# Altium schematic symbol library swatpcblib.SchLib: 133 symbols
Pins are listed as number, name and electrical type; pins without a type are passive.

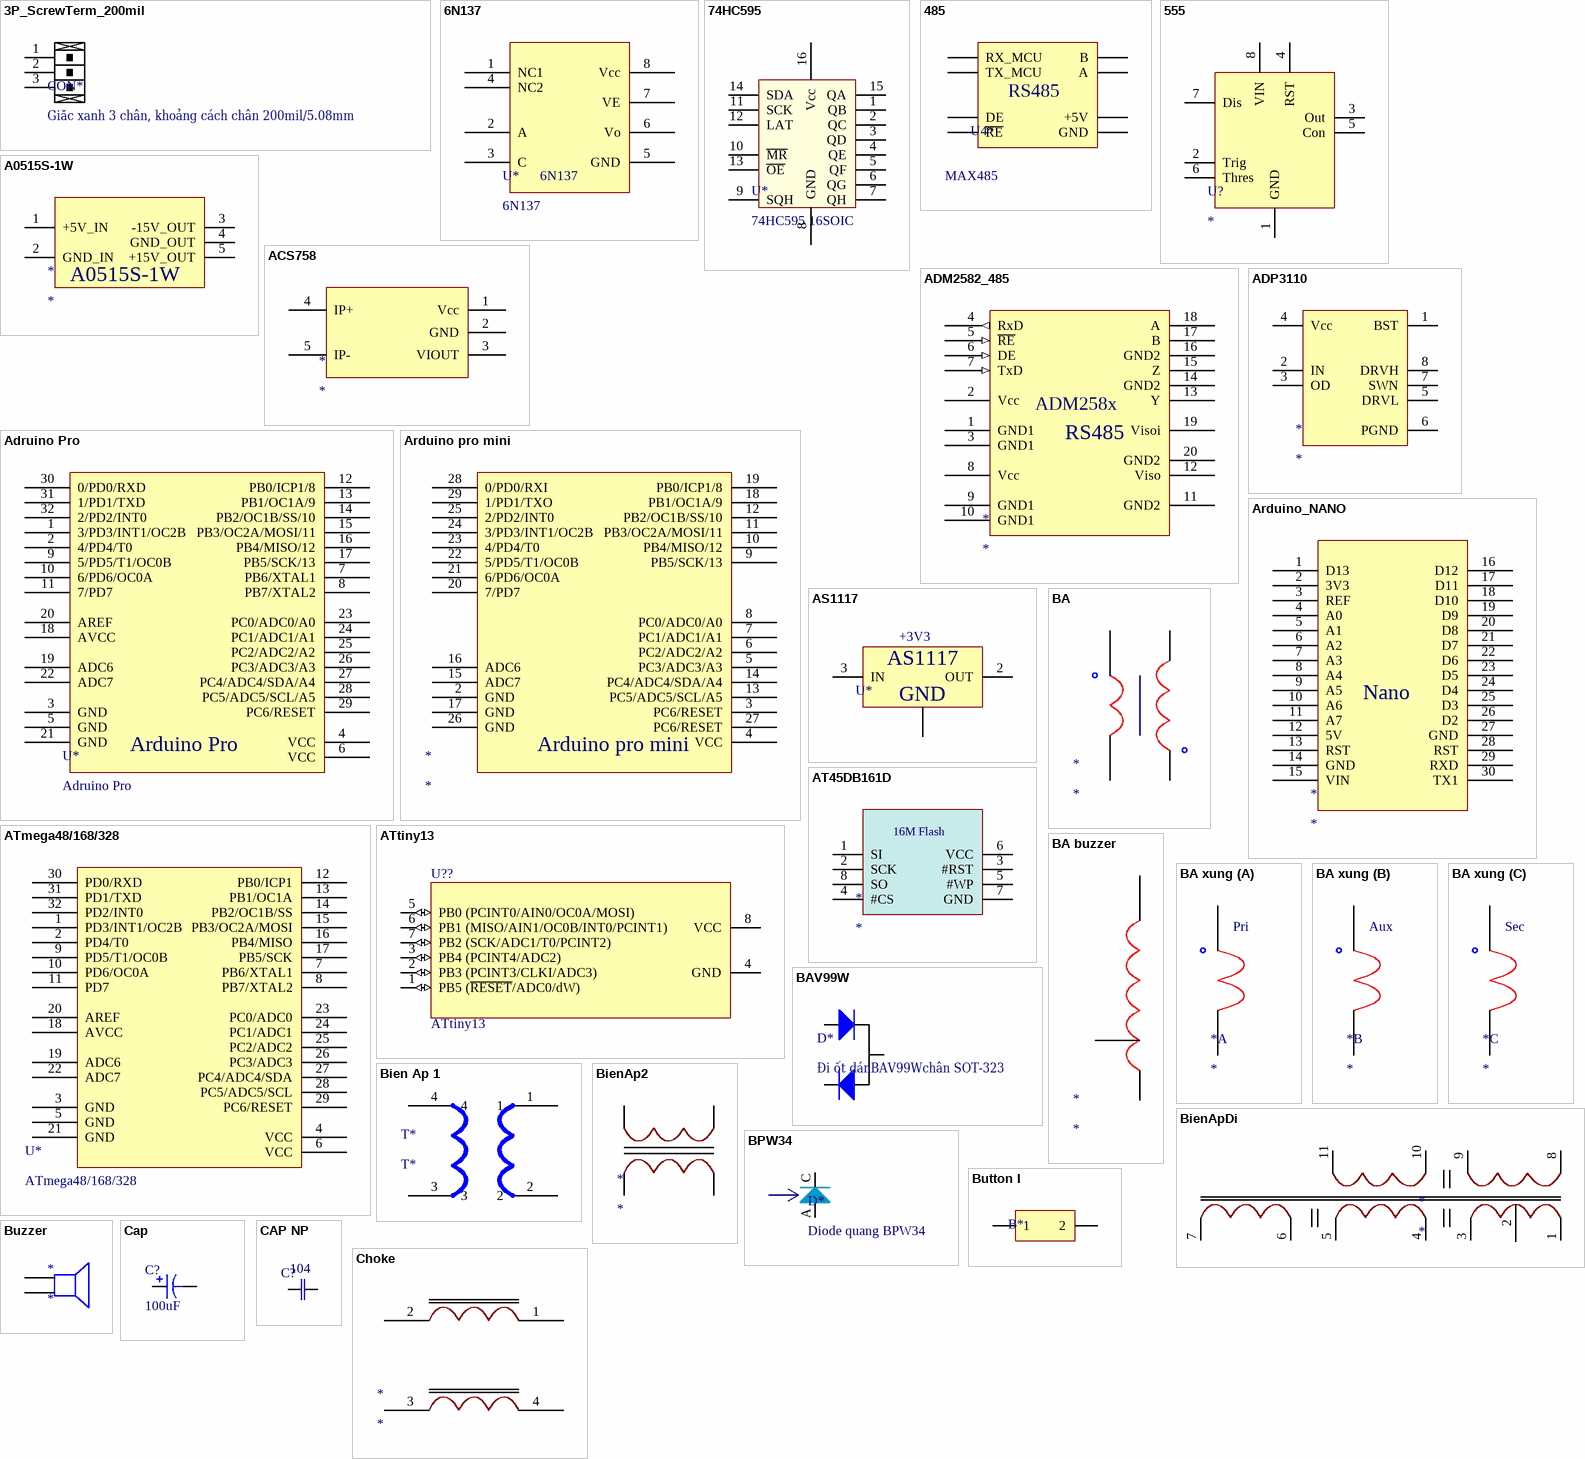
[diagram p0: symbols 3P_ScrewTerm_200mil to Choke]

## 3P_ScrewTerm_200mil
designator CON*, comment Giăc xanh 3 chân, khoảng cách chân 200mil/5.08mm
Terminal Block THT 3-Position header 5.08mm/200mil pitch; vl: Giăc xanh 3 chân, khoảng cách chân 200mil/5.08mm
footprint 3P_ScrewTerm_200mil
pins: 1, 2, 3

## 6N137
designator U*
Logic Output Optoisolator 15MBd Open Collector 5000Vrms 1 Channel 10kV/µs CMTI 8-DIP
footprint SMD-8 (6N137)
pins: 1 NC1, 2 A, 3 C, 4 NC2, 5 GND, 6 Vo, 7 VE, 8 Vcc

## 74HC595
designator U*, comment 74HC595 16SOIC
IC SHIFT REGISTER 8BIT 16SOIC
footprint SOIC16
pins: 1 QB, 2 QC, 3 QD, 4 QE, 5 QF, 6 QG, 7 QH, 8 GND (power), 9 SQH "OUTPUT", 10 ~{MR} "OUTPUT", 11 SCK "OUTPUT", 12 LAT "OUTPUT", 13 ~{OE} "OUTPUT", 14 SDA "OUTPUT", 15 QA, 16 Vcc (power)

## 485
designator U4*, comment vl2: MAX485  (hidden comment: MAX4858 chân cắm)
RS485; vl1: SN75176; cm2: 8 chân dán; cm1: 8 chân cắm
footprint SOIC 8
pins: 1 RX_MCU, 2 ~{RE}, 3 DE, 4 TX_MCU, 5 GND, 6 A, 7 B, 8 +5V

## 555
designator U?
footprint SO 8
pins: 1 GND (power), 2 Trig (power), 3 Out (power), 4 RST (power), 5 Con (power), 6 Thres (power), 7 Dis (power), 8 VIN (power)

## A0515S-1W
designator *
footprint MORNSUN A0515S
pins: 1 +5V_IN, 2 GND_IN, 3 -15V_OUT, 4 GND_OUT, 5 +15V_OUT

## ACS758
designator *
Current Sensor 200A 1 Channel Hall Effect, Open Loop Bidirectional 5-CB Formed Leads, PFF
footprint ACS758
pins: 1 Vcc (power), 2 GND (power), 3 VIOUT (power), 4 IP+ (power), 5 IP- (power)

## ADM2582_485
designator *
footprint SO-20B (SOIC, 20-Leads, Body 12.8x7.5mm, Pitch 1.27mm, IPC Medium Density)
pins: 1 GND1 (power), 2 Vcc (power), 3 GND1 (power), 4 RxD (out), 5 ~{RE} (in), 6 DE (in), 7 TxD (in), 8 Vcc (power), 9 GND1 (power), 10 GND1 (power), 11 GND2 (power), 12 Viso (power), 13 Y, 14 GND2 (power), 15 Z, 16 GND2 (power), 17 B, 18 A, 19 Visoi (power), 20 GND2 (power)
text: ADM258x; RS485

## ADP3110
designator *
footprint SO 8
pins: 1 BST (power), 2 IN (power), 3 OD (power), 4 Vcc (power), 5 DRVL (power), 6 PGND (power), 7 SWN (power), 8 DRVH (power)

## Adruino Pro
designator U*
footprint TQFP32 (32-TQFP (7x7))
pins: 1 3/PD3/INT1/OC2B, 2 4/PD4/T0, 3 GND (power), 4 VCC, 5 GND (power), 6 VCC, 7 PB6/XTAL1, 8 PB7/XTAL2, 9 5/PD5/T1/OC0B, 10 6/PD6/OC0A, 11 7/PD7, 12 PB0/ICP1/8, 13 PB1/OC1A/9, 14 PB2/OC1B/SS/10, 15 PB3/OC2A/MOSI/11, 16 PB4/MISO/12, 17 PB5/SCK/13, 18 AVCC, 19 ADC6, 20 AREF, 21 GND (power), 22 ADC7, 23 PC0/ADC0/A0, 24 PC1/ADC1/A1, 25 PC2/ADC2/A2, 26 PC3/ADC3/A3, 27 PC4/ADC4/SDA/A4, 28 PC5/ADC5/SCL/A5, 29 PC6/RESET, 30 0/PD0/RXD, 31 1/PD1/TXD, 32 2/PD2/INT0
text: Arduino Pro

## Arduino pro mini
designator *
The simple arduino pro mini
footprint Ard pro mini
pins: 2 GND (power), 3 PC6/RESET, 4 VCC, 5 PC3/ADC3/A3, 6 PC2/ADC2/A2, 7 PC1/ADC1/A1, 8 PC0/ADC0/A0, 9 PB5/SCK/13, 10 PB4/MISO/12, 11 PB3/OC2A/MOSI/11, 12 PB2/OC1B/SS/10, 13 PC5/ADC5/SCL/A5, 14 PC4/ADC4/SDA/A4, 15 ADC7, 16 ADC6, 17 GND (power), 18 PB1/OC1A/9, 19 PB0/ICP1/8, 20 7/PD7, 21 6/PD6/OC0A, 22 5/PD5/T1/OC0B, 23 4/PD4/T0, 24 3/PD3/INT1/OC2B, 25 2/PD2/INT0, 26 GND (power), 27 PC6/RESET, 28 0/PD0/RXI, 29 1/PD1/TXO

## Arduino_NANO
designator *
footprint Mo_NANO
pins: 1 D13 (power), 2 3V3 (power), 3 REF (power), 4 A0 (power), 5 A1 (power), 6 A2 (power), 7 A3 (power), 8 A4 (power), 9 A5 (power), 10 A6 (power), 11 A7 (power), 12 5V (power), 13 RST (power), 14 GND (power), 15 VIN (power), 16 D12 (power), 17 D11 (power), 18 D10 (power), 19 D9 (power), 20 D8 (power), 21 D7 (power), 22 D6 (power), 23 D5 (power), 24 D4 (power), 25 D3 (power), 26 D2 (power), 27 GND (power), 28 RST (power), 29 RXD (power), 30 TX1 (power)
text: Nano

## AS1117
designator U*, comment vl: +3V3  (hidden comment: IC nguồn AS1117 dán+3V3)
cm: IC nguồn AS1117 dán
footprint SOT223-4N
pins: 1 GND (power), 2 OUT (power), 3 IN (power), 4

## AT45DB161D
designator *
footprint 8s2
pins: 1 SI (power), 2 SCK (power), 3 #RST (power), 4 #CS (power), 5 #WP (power), 6 VCC (power), 7 GND (power), 8 SO (power)
text: 16M Flash

## ATmega48/168/328
designator U*
AVR AVR® ATmega Microcontroller IC 8-Bit 20MHz 8KB (4K x 16) FLASH 32-TQFP (7x7)
footprint TQFP32 (32-TQFP (7x7))
pins: 1 PD3/INT1/OC2B, 2 PD4/T0, 3 GND (power), 4 VCC, 5 GND (power), 6 VCC, 7 PB6/XTAL1, 8 PB7/XTAL2, 9 PD5/T1/OC0B, 10 PD6/OC0A, 11 PD7, 12 PB0/ICP1, 13 PB1/OC1A, 14 PB2/OC1B/SS, 15 PB3/OC2A/MOSI, 16 PB4/MISO, 17 PB5/SCK, 18 AVCC, 19 ADC6, 20 AREF, 21 GND (power), 22 ADC7, 23 PC0/ADC0, 24 PC1/ADC1, 25 PC2/ADC2, 26 PC3/ADC3, 27 PC4/ADC4/SDA, 28 PC5/ADC5/SCL, 29 PC6/RESET, 30 PD0/RXD, 31 PD1/TXD, 32 PD2/INT0

## ATtiny13
designator U??
8-Bit AVR Microcontroller with 1K Byte of Flash Memory; Published: 17-Sep-2003; LatestRevisionDate: 13-Apr-2006; LatestRevisionNote: IPC-7351 Footprint Added.; DatasheetVersion: 1187E-AVR-06/02; PackageVersion: revB, May-2002; PackageReference: 8S2; Publisher: Altium Limited; PackageDescription: 8-Pin Small Outline Package 1.27 mm Pitch; ComponentLink1Description: Manufacturer Link; ComponentLink1URL: http://www.atmel.com; ComponentLink2Description: Datasheet; ComponentLink2URL: http://www.atmel.com/dyn/resources/prod_documents/doc1187.pdf
footprint 8S2_N (SOP, 8-Leads, Body 5.3x5.3mm, Pitch 1.27mm, IPC Medium Density)
footprint 8S2_L (SOP, 8-Leads, Body 5.3x5.3mm, Pitch 1.27mm, IPC High Density)
footprint 8S2_M (SOP, 8-Leads, Body 5.3x5.3mm, Pitch 1.27mm, IPC Low Density)
3D model 8S2 (8-Pin Small Outline Package 1.27 mm Pitch)
footprint SOIC 8
pins: 1 PB5 (~{RESET}/ADC0/dW) (io), 2 PB3 (PCINT3/CLKI/ADC3) (io), 3 PB4 (PCINT4/ADC2) (io), 4 GND (power), 5 PB0 (PCINT0/AIN0/OC0A/MOSI) (io), 6 PB1 (MISO/AIN1/OC0B/INT0/PCINT1) (io), 7 PB2 (SCK/ADC1/T0/PCINT2) (io), 8 VCC (power)

## BA
designator *
footprint ba11 (Footprint not found)
pins: 1 (power), 2 (power), 3 (power), 4 (power)

## BA buzzer
designator *
footprint Buzzer Transformer
pins: 1 (power), 2 (power), 3 (power)

## BA xung
designator *
footprint DT002EE2506V (Chikara); pin to pad 3>4 4>5 5>7 6>9
part A pins: 1 (power), 2 (power)
part B pins: 3 (power), 4 (power)
part C pins: 5 (power), 6 (power)
part A text: Pri
part B text: Aux
part C text: Sec

## BAV99W
designator D*, comment Đi ốt dánBAV99Wchân SOT-323
Diode Array 1 Pair Series Connection Standard 70V 215mA (DC) Surface Mount SC-70, SOT-323; vl1: BAV99W; vl2: BAV70; Des: Diode Array 1 Pair Series Connection Standard 70V 215mA (DC) Surface Mount SC-70, SOT-323; cm1: Đi ốt dán; cm2: chân SOT-323
footprint SOT323 (SOT323 (SC70))
pins: 1 A, 2 K, 3 AK

## Bien Ap 1
designator T*, comment T*
footprint Bien Ap 1
pins: 1, 2, 3, 4

## BienAp2
designator *
pins: 1, 2, 3, 4

## BienApDi
designator *
pins: 1, 2, 3, 4, 5, 6, 7, 8, 9, 10, 11

## BPW34
designator D*, comment Diode quang BPW34
BPW34 is a PIN photodiode with high speed and high radiant sensitivity in miniature, flat, top view, clear plastic package. It is sensitive to visible and near infrared radiation.; value: Diode quang BPW34; des: BPW34 is a PIN photodiode with high speed and high radiant sensitivity in miniature, flat, top view, clear plastic package. It is sensitive to visible and near infrared radiation.
footprint BPW34
pins: A, C

## Button I
designator B*, comment Button  (value not drawn)
footprint SW 12x12x4 (Nut bam 12x12x4mm)
footprint SW (6.25x6.25mm)
pins: 1 (power), 2 (power)

## Buzzer
designator *
footprint BUZZ
footprint Buzzerv2
pins: 1, 2

## Cap
designator C?  value 100uF  (hidden comment: *)
footprint CAP 3.8mm (16V 470uF)
footprint SMD CAP 6032
footprint SMD 6728
pins: 1, 2

## CAP NP
designator C?, comment value 104  (hidden comment: Tụ điện dán 0603104)
Capacitor non polarized; cm2: Tụ điện dán 0805; cm3: Tụ điện dán 1206; cm1: Tụ điện dán 0603
footprint CAP 0805
footprint CAPC1608N_F (Chip Capacitor, Body 1.6x0.8mm, 0603, IPC Medium Density, for Flex circuits)
footprint CAPC2012N_F (Chip Capacitor, Body 2.0x1.2mm, 0805, IPC Medium Density, for Flex circuits)
footprint CAPC3216N (Chip Capacitor, Body 3.2x1.6mm, 1206, IPC Medium Density)
pins: 1, 2

## Choke
designator *
footprint Choke
pins: 1, 2, 3, 4

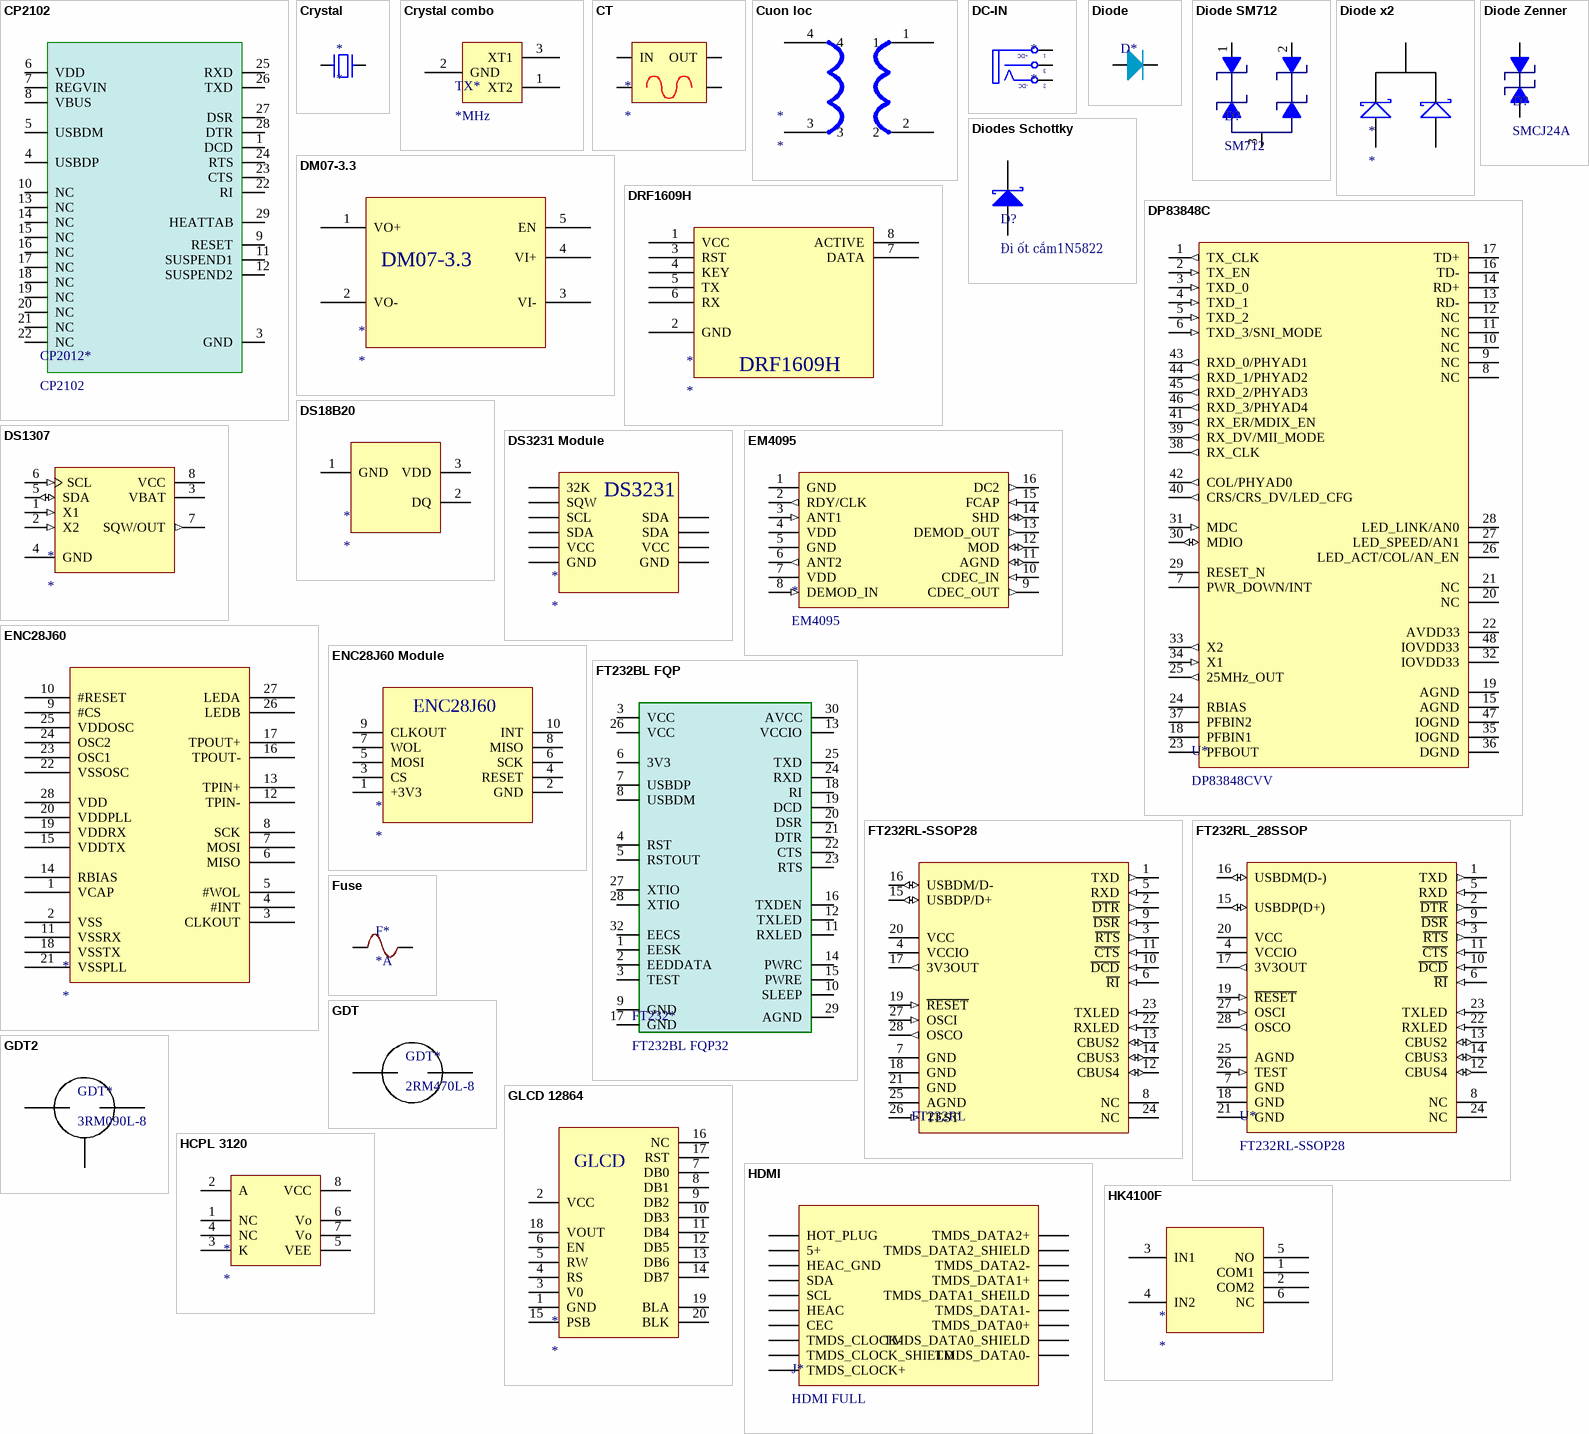
[diagram p1: symbols CP2102 to HK4100F]

## CP2102
designator CP2012*
footprint QFN28
pins: 1 DCD (power), 3 GND (power), 4 USBDP (power), 5 USBDM (power), 6 VDD (power), 7 REGVIN (power), 8 VBUS (power), 9 RESET (power), 10 NC (power), 11 SUSPEND1 (power), 12 SUSPEND2 (power), 13 NC (power), 14 NC (power), 15 NC (power), 16 NC (power), 17 NC (power), 18 NC (power), 19 NC (power), 20 NC (power), 21 NC (power), 22 RI (power), 22 NC (power), 23 CTS (power), 24 RTS (power), 25 RXD (power), 26 TXD (power), 27 DSR (power), 28 DTR (power), 29 HEATTAB (power)

## Crystal
designator *
footprint XT2
footprint XT2N
footprint XTmini
footprint XTminiv2
pins: 1, 2

## Crystal combo
designator TX*, comment *MHz
footprint Crystal combo
pins: 1 XT2 (power), 2 GND (power), 3 XT1 (power)

## CT
designator *
pins: 1 CT, 2 CT, 3 OUT, 4 IN

## Cuon loc
designator *
footprint Cuon loc
pins: 1, 2, 3, 4

## DC-IN
designator *
footprint DC-IN-5mm
pins: 1 T "Tip", 2 TN "Tip Normal (Break Contact)", 3 S (power) "Sleeve (Ground)"
text: +DC; -DC

## Diode
designator D*
cm1: Đi ốt cắm; cm2: Đi ốt dán; vl2: FR307; vl3: TVS 1.5KE300A 19A 300V; vl4: HER508 5A 1000V
footprint DO-35 (1N4148); pin to pad A>2 K>1
footprint DO-41-2
footprint DO-41 (1N4007)
footprint DO-201 (1N5822, FR307)
footprint DO-41-2
pins: A, K

## Diode SM712
designator D?, comment SM712
The SM712 transient voltage suppressor (TVS) diode  is designed for asymmetrical (12V to -7V) protection  in multi-point data transmission standard RS-485  applications.
footprint SOT23 TOP; pin to pad 2>3 3>2
pins: 1 IO1, 2 IO2, 3 GND

## Diode x2
designator *
footprint TO-220
pins: 1 A1, 2 A2, 3 K

## Diode Zenner
designator D?, comment SMCJ24A
ESD Suppressors / TVS Diodes 24volts 1.5kW 5% Uni-Dir. AEC-Q101
footprint DO-214AB (JEDEC DO214 variation AB. SMC); pin to pad 1>K 2>A
pins: 1, 2

## Diodes Schottky
designator D?, comment Đi ốt cắm1N5822
Schottky Diodes Through Hole 3 A 40 V Schottky Diodes, DO-201AD, SB340 ,MBR340; cm2: Đi ốt dán; Value: 1N5822; cm1: Đi ốt cắm
footprint DO-201 (Diode THT DO-201)
footprint DO 214AB (SS54 SS34)
pins: A, K

## DM07-3.3
designator *
footprint DM07-3.3V
pins: 1 VO+ (power), 2 VO- (power), 3 VI- (power), 4 VI+ (power), 5 EN (power)

## DP83848C
designator U*, comment DP83848CVV
pins: 1 TX_CLK (out), 2 TX_EN (in), 3 TXD_0 (in), 4 TXD_1 (in), 5 TXD_2 (in), 6 TXD_3/SNI_MODE (in), 7 PWR_DOWN/INT, 8 NC, 9 NC, 10 NC, 11 NC, 12 NC, 13 RD-, 14 RD+, 15 AGND, 16 TD-, 17 TD+, 18 PFBIN1, 19 AGND, 20 NC, 21 NC, 22 AVDD33, 23 PFBOUT, 24 RBIAS, 25 25MHz_OUT (out), 26 LED_ACT/COL/AN_EN, 27 LED_SPEED/AN1, 28 LED_LINK/AN0, 29 RESET_N, 30 MDIO (io), 31 MDC (in), 32 IOVDD33, 33 X2 (out), 34 X1 (in), 35 IOGND, 36 DGND, 37 PFBIN2, 38 RX_CLK (out), 39 RX_DV/MII_MODE (out), 40 CRS/CRS_DV/LED_CFG (out), 41 RX_ER/MDIX_EN (out), 42 COL/PHYAD0 (out), 43 RXD_0/PHYAD1 (out), 44 RXD_1/PHYAD2 (out), 45 RXD_2/PHYAD3 (out), 46 RXD_3/PHYAD4 (out), 47 IOGND, 48 IOVDD33

## DRF1609H
designator *
footprint DRF1609H-DIP
pins: 1 VCC (power), 2 GND (power), 3 RST (power), 4 KEY (power), 5 TX (power), 6 RX (power), 7 DATA (power), 8 ACTIVE (power)

## DS18B20
designator *
footprint QTO-92 (TO-92)
pins: 1 GND, 2 DQ, 3 VDD

## DS1307
designator *
pins: 1 X1 (in), 2 X2 (in), 3 VBAT (power), 4 GND (power), 5 SDA (io), 6 SCL (in), 7 SQW/OUT (out), 8 VCC (power)

## DS3231 Module
designator *
footprint DS3231 Module
pins: 1 32K, 2 SQW, 3 SCL, 4 SDA, 5 VCC, 6 GND, 7 SDA, 8 SDA, 9 VCC, 10 GND
text: DS3231

## EM4095
designator *
footprint SOIC16
pins: 1 GND (power), 2 RDY/CLK (out), 3 ANT1 (in), 4 VDD (power), 5 GND (power), 6 ANT2 (out), 7 VDD (power), 8 DEMOD_IN (in), 9 CDEC_OUT (out), 10 CDEC_IN (in), 11 AGND (io), 12 MOD (io), 13 DEMOD_OUT (out), 14 SHD (io), 15 FCAP (in), 16 DC2 (out)

## ENC28J60
designator *
footprint SSOP28
pins: 1 VCAP, 2 VSS, 3 CLKOUT, 4 #INT, 5 #WOL, 6 MISO, 7 MOSI, 8 SCK, 9 #CS, 10 #RESET, 11 VSSRX, 12 TPIN-, 13 TPIN+, 14 RBIAS, 15 VDDTX, 16 TPOUT-, 17 TPOUT+, 18 VSSTX, 19 VDDRX, 20 VDDPLL, 21 VSSPLL, 22 VSSOSC, 23 OSC1, 24 OSC2, 25 VDDOSC, 26 LEDB, 27 LEDA, 28 VDD

## ENC28J60 Module
designator *
footprint ENC28J60 Module
pins: 1 +3V3, 2 GND, 3 CS, 4 RESET, 5 MOSI, 6 SCK, 7 WOL, 8 MISO, 9 CLKOUT, 10 INT
text: ENC28J60

## FT232BL FQP
designator FT232*, comment FT232BL FQP32
footprint 32PIN
pins: 1 EESK (power), 2 EEDDATA (power), 3 VCC (power), 3 TEST (power), 4 RST (power), 5 RSTOUT (power), 6 3V3 (power), 7 USBDP (power), 8 USBDM (power), 9 GND (power), 10 SLEEP (power), 11 RXLED (power), 12 TXLED (power), 13 VCCIO (power), 14 PWRC (power), 15 PWRE (power), 16 TXDEN (power), 17 GND (power), 18 RI (power), 19 DCD (power), 20 DSR (power), 21 DTR (power), 22 CTS (power), 23 RTS (power), 24 RXD (power), 25 TXD (power), 26 VCC (power), 27 XTIO (power), 28 XTIO (power), 29 AGND (power), 30 AVCC (power), 32 EECS (power)

## FT232RL-SSOP28
designator FT232RL  (value not drawn)
SSOP28
footprint SSOP28
pins: 1 TXD (out), 2 ~{DTR} (out), 3 ~{RTS} (out), 4 VCCIO (power), 5 RXD (in), 6 ~{RI} (in), 7 GND (power), 8 NC, 9 ~{DSR} (in), 10 ~{DCD} (in), 11 ~{CTS} (in), 12 CBUS4 (io), 13 CBUS2 (io), 14 CBUS3 (io), 15 USBDP/D+ (io), 16 USBDM/D- (io), 17 3V3OUT (out), 18 GND (power), 19 ~{RESET} (in), 20 VCC (power), 21 GND (power), 22 RXLED (in), 23 TXLED (in), 24 NC, 25 AGND (power), 26 TEST (in), 27 OSCI (in), 28 OSCO (out)

## FT232RL_28SSOP
designator U*, comment FT232RL-SSOP28
USB UART Asynchronous Serial Data Transfer Chip, SSOP-28, Tube
footprint SSOP28
pins: 1 TXD (out), 2 ~{DTR} (out), 3 ~{RTS} (out), 4 VCCIO (power), 5 RXD (in), 6 ~{RI} (in), 7 GND (power), 8 NC, 9 ~{DSR} (in), 10 ~{DCD} (in), 11 ~{CTS} (in), 12 CBUS4 (io), 13 CBUS2 (io), 14 CBUS3 (io), 15 USBDP(D+) (io), 16 USBDM(D-) (io), 17 3V3OUT (out), 18 GND (power), 19 ~{RESET} (in), 20 VCC (power), 21 GND (power), 22 RXLED (in), 23 TXLED (in), 24 NC, 25 AGND (power), 26 TEST (in), 27 OSCI (in), 28 OSCO (out)

## Fuse
designator F*, comment *A
footprint Fuse
pins: 1, 2

## GDT
designator GDT*, comment 2RM470L-8
Gas Discharge Tube 470V; Supplier 1: Farnell
footprint GAS DISCHARGE TUBE (2RMxxx)
pins: 1, 2

## GDT2
designator GDT*, comment 3RM090L-8
Gas Discharge Tube 90V
footprint GAS DISCHARGE TUBE 2
pins: 1, 2, 3

## GLCD 12864
designator *
footprint HDR1X20 (Connector; Header; 20 Position)
pins: 1 GND, 2 VCC, 3 V0, 4 RS, 5 RW, 6 EN, 7 DB0, 8 DB1, 9 DB2, 10 DB3, 11 DB4, 12 DB5, 13 DB6, 14 DB7, 15 PSB, 16 NC, 17 RST, 18 VOUT, 19 BLA, 20 BLK
text: GLCD

## HCPL 3120
designator *
pins: 1 NC, 2 A, 3 K, 4 NC, 5 VEE, 6 Vo, 7 Vo, 8 VCC

## HDMI
designator J*, comment HDMI FULL
footprint HDMI Chuan (FCI CON)
pins: 5+, CEC, HEAC, HEAC_GND, HOT_PLUG, SCL, SDA, TMDS_CLOCK+, TMDS_CLOCK-, TMDS_CLOCK_SHIELD, TMDS_DATA0+, TMDS_DATA0-, TMDS_DATA0_SHIELD, TMDS_DATA1+, TMDS_DATA1-, TMDS_DATA1_SHEILD, TMDS_DATA2+, TMDS_DATA2-, TMDS_DATA2_SHIELD

## HK4100F
designator *
footprint HK4100F (Relay 6 pin)
pins: 1 COM1, 2 COM2, 3 IN1, 4 IN2, 5 NO, 6 NC

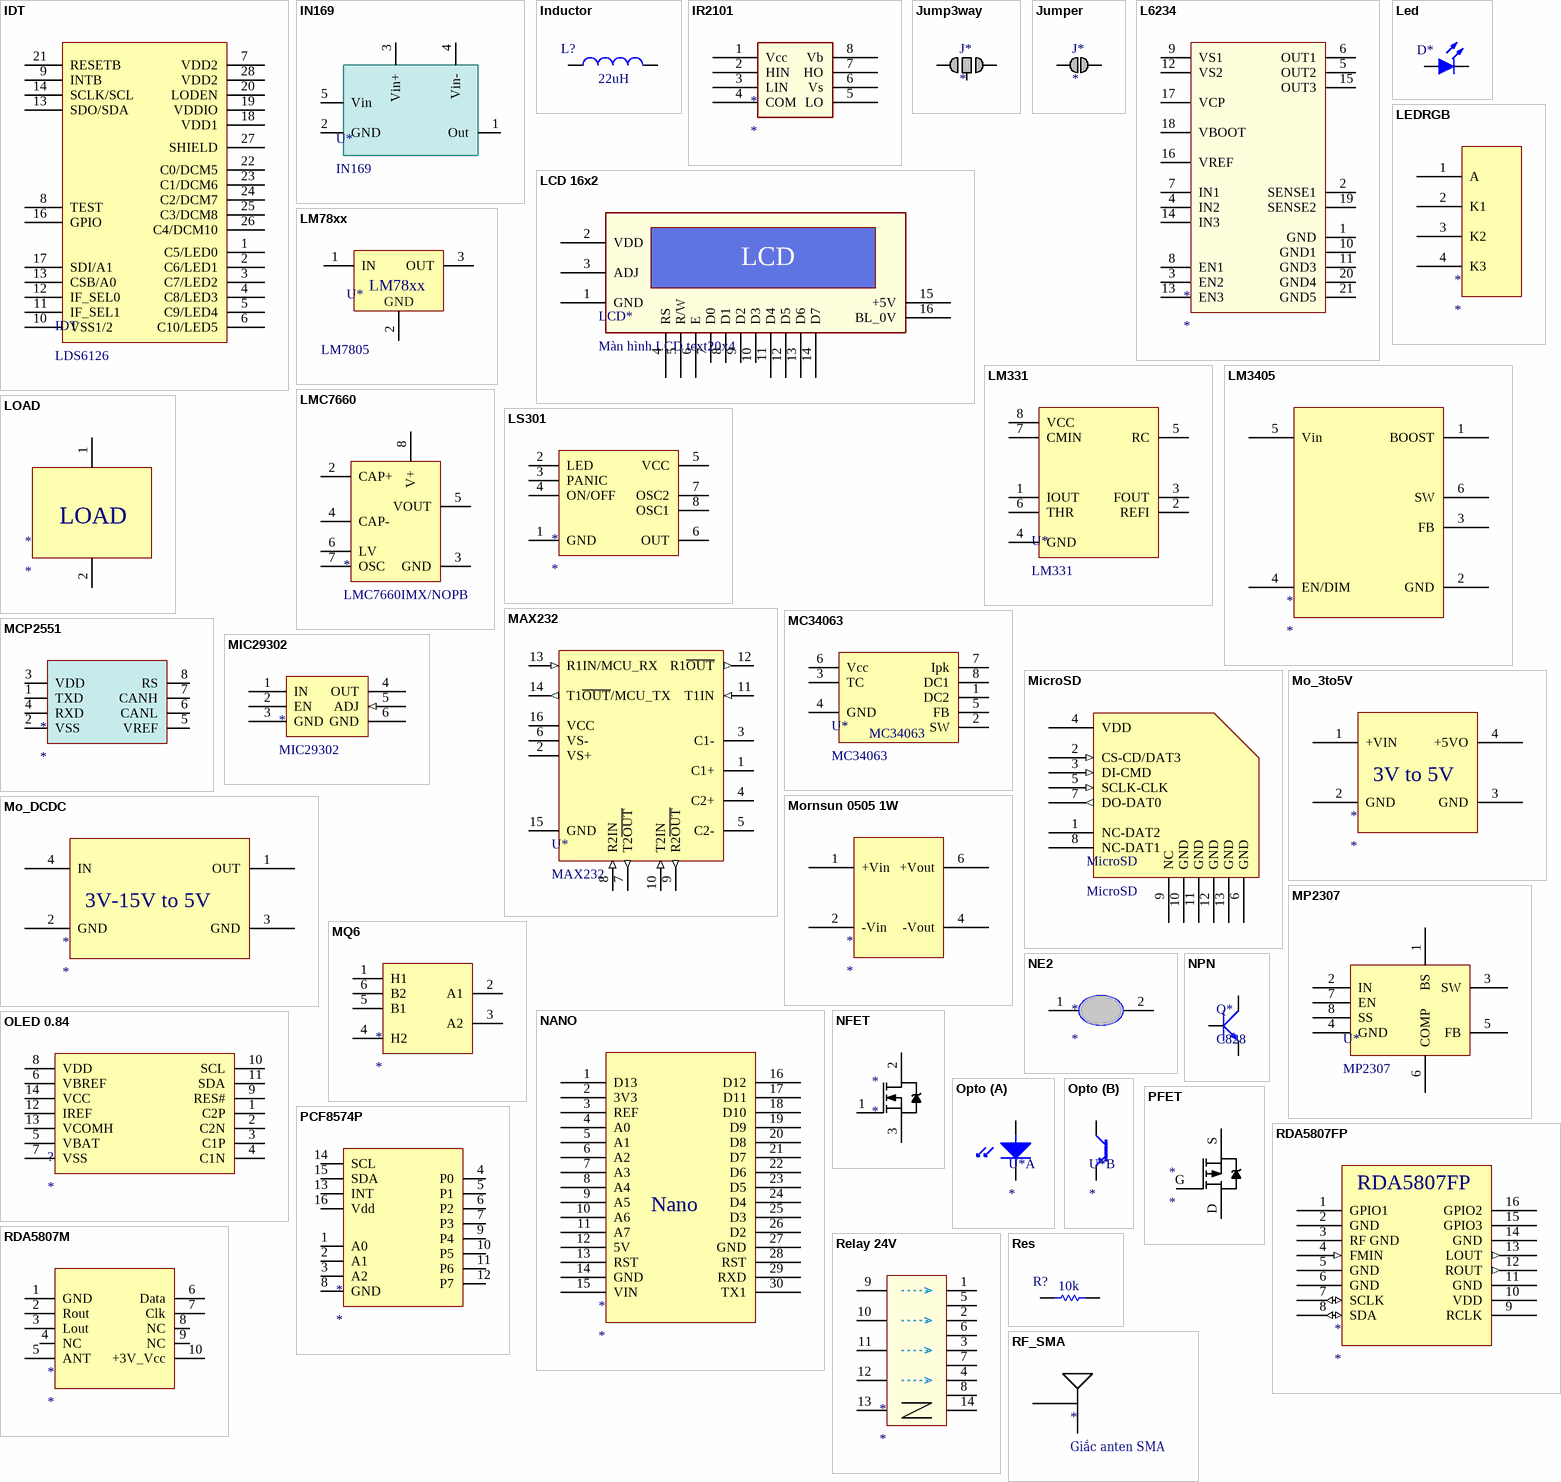
[diagram p2: symbols IDT to RF_SMA]

## IDT
designator IDT, comment LDS6126
footprint SSOP28
pins: 1 C5/LED0 (power), 2 C6/LED1 (power), 3 C7/LED2 (power), 4 C8/LED3 (power), 5 C9/LED4 (power), 6 C10/LED5 (power), 7 VDD2 (power), 8 TEST (power), 9 INTB (power), 10 VSS1/2 (power), 11 IF_SEL1 (power), 12 IF_SEL0 (power), 13 CSB/A0 (power), 13 SDO/SDA (power), 14 SCLK/SCL (power), 16 GPIO (power), 17 SDI/A1 (power), 18 VDD1 (power), 19 VDDIO (power), 20 LODEN (power), 21 RESETB (power), 22 C0/DCM5 (power), 23 C1/DCM6 (power), 24 C2/DCM7 (power), 25 C3/DCM8 (power), 26 C4/DCM10 (power), 27 SHIELD (power), 28 VDD2 (power)

## IN169
designator U*
footprint SOT 235 TOP
pins: 1 Out (power), 2 GND (power), 3 Vin+ (power), 4 Vin- (power), 5 Vin (power)

## Inductor
designator L?, comment value 22uH  (hidden comment: Cuộn cảm dán22uH)
cm2: Cuộn cảm cắm; cm1: Cuộn cảm dán
footprint Inductor 12x12x6
pins: 1, 2

## IR2101
designator *
footprint SOIC127P600X175-8AN (SOIC, 8-Leads, Body 4.9x3.9mm, Pitch 1.27mm, IPC Medium Density)
pins: 1 Vcc, 2 HIN, 3 LIN, 4 COM, 5 LO, 6 Vs, 7 HO, 8 Vb

## Jump3way
designator J*
footprint Jump_3Way (SMT Battery jumper pads)
pins: 1, 2, 3

## Jumper
designator J*
footprint JUMP1 (SMT Battery jumper pads)
footprint JP2
pins: 1, 2

## L6234
designator *
footprint L6234
pins: 1 GND, 2 SENSE1, 3 EN2, 4 IN2, 5 OUT2, 6 OUT1, 7 IN1, 8 EN1, 9 VS1, 10 GND1, 11 GND3, 12 VS2, 13 EN3, 14 IN3, 15 OUT3, 16 VREF, 17 VCP, 18 VBOOT, 19 SENSE2, 20 GND4, 21 GND5

## LCD 16x2
designator LCD*, comment Màn hình LCD text20x4
Text LCD; vl1: 16x2; vl2: 20x4; cm1: Màn hình LCD text
footprint LCD 16x2
footprint LCD 20x4
pins: 1 GND, 2 VDD, 3 ADJ, 4 RS, 5 R/W, 6 E, 7 D0, 8 D1, 9 D2, 10 D3, 11 D4, 12 D5, 13 D6, 14 D7, 15 +5V, 16 BL_0V
text: LCD

## Led
designator D*  (value not drawn)
footprint Led 0805
footprint LED 3mm
footprint LED 5mm
footprint LED 5mm Green
footprint LED 5mm RED
footprint LED3528
pins: A, K

## LEDRGB
designator *
footprint LED RGB; pin to pad 1>A 2>K1 3>K2 4>K3
pins: 1 A, 2 K1, 3 K2, 4 K3

## LM78xx
designator U*, comment vl: LM7805  (hidden comment: IC ổn ápLM7805cắm TO220)
cm1: IC ổn áp; vl2: dán TO252; vl3: dán SOT89; vl1: cắm TO220
footprint TO-220
footprint SOT89
footprint TO252 D-PAK
pins: 1 IN, 2 GND, 3 OUT

## LM331
designator U*
footprint DIP 8 (DIP; 8 Leads; Row Spacing 7.62 mm; Pitch 2.54 mm)
pins: 1 IOUT, 2 REFI, 3 FOUT, 4 GND, 5 RC, 6 THR, 7 CMIN, 8 VCC

## LM3405
designator *
footprint lm3405
pins: 1 BOOST, 2 GND, 3 FB, 4 EN/DIM, 5 Vin, 6 SW

## LMC7660
designator *, comment LMC7660IMX/NOPB
Charge Pump Switching Regulator IC Negative Fixed -Vin 1 Output 8-SOIC (0.154", 3.90mm Width); Digikey Part: LMC7660IMX/NOPBCT-ND; Link: http://www.digikey.com/product-detail/en/texas-instruments/LMC7660IMX-NOPB/LMC7660IMX-NOPBCT-ND/1010555
footprint SOIC 8
pins: 2 CAP+, 3 GND, 4 CAP-, 5 VOUT, 6 LV, 7 OSC, 8 V+

## LOAD
designator *
pins: 1, 2

## LS301
designator *
footprint SO 8
pins: 1 GND, 2 LED, 3 PANIC, 4 ON/OFF, 5 VCC, 6 OUT, 7 OSC2, 8 OSC1

## MAX232
designator U*
footprint SOIC127P600X175-16AN (SOIC, 1.27mm pitch, 16 pin, Body 9.9x3.90mm)
pins: 1 C1+, 2 VS+ (power), 3 C1-, 4 C2+, 5 C2-, 6 VS- (power), 7 T2~{OUT} (out), 8 R2IN (in), 9 R2~{OUT} (out), 10 T2IN (in), 11 T1IN (in), 12 R1~{OUT} (out), 13 R1IN/MCU_RX (in), 14 T1~{OUT}/MCU_TX (out), 15 GND (power), 16 VCC (power)

## MC34063
designator U*
footprint SO 8
pins: 1 DC2 (power), 2 SW (power), 3 TC (power), 4 GND (power), 5 FB (power), 6 Vcc (power), 7 Ipk (power), 8 DC1 (power)

## MCP2551
designator *
footprint SOIC 8
pins: 1 TXD (power), 2 VSS (power), 3 VDD (power), 4 RXD (power), 5 VREF (power), 6 CANL (power), 7 CANH (power), 8 RS (power)

## MIC29302
designator *
footprint D2Pak TO-263-5
pins: 1 IN (power), 2 EN (power), 3 GND (power), 4 OUT (power), 5 ADJ (in), 6 GND (power)

## MicroSD
designator MicroSD
footprint microsd
pins: 1 NC-DAT2, 2 CS-CD/DAT3 (in), 3 DI-CMD (in), 4 VDD, 5 SCLK-CLK (in), 6 GND, 7 DO-DAT0 (out), 8 NC-DAT1, 9 NC, 10 GND, 11 GND, 12 GND, 13 GND

## Mo_3to5V
designator *
footprint Mo_3Vto5V
pins: 1 +VIN (power), 2 GND (power), 3 GND (power), 4 +5VO (power)
text: 3V to 5V

## Mo_DCDC
designator *
footprint S08 (DC-DC)
pins: 1 OUT (power), 2 GND (power), 3 GND (power), 4 IN (power)
text: 3V-15V to 5V

## Mornsun 0505 1W
designator *
footprint Mornsun 1W (B0505LS-1W-1450)
pins: 1 +Vin, 2 -Vin, 4 -Vout, 6 +Vout

## MP2307
designator U*
Sync Buck, 23V, 3A, 340KHz
footprint SO 8
pins: 1 BS (power), 2 IN (power), 3 SW (power), 4 GND (power), 5 FB (power), 6 COMP (power), 7 EN (power), 8 SS (power)

## MQ6
designator *
footprint MQ6
pins: 1 H1 (power), 2 A1 (power), 3 A2 (power), 4 H2 (power), 5 B1 (power), 6 B2 (power)

## NANO
designator *
footprint NANO
pins: 1 D13 (power), 2 3V3 (power), 3 REF (power), 4 A0 (power), 5 A1 (power), 6 A2 (power), 7 A3 (power), 8 A4 (power), 9 A5 (power), 10 A6 (power), 11 A7 (power), 12 5V (power), 13 RST (power), 14 GND (power), 15 VIN (power), 16 D12 (power), 17 D11 (power), 18 D10 (power), 19 D9 (power), 20 D8 (power), 21 D7 (power), 22 D6 (power), 23 D5 (power), 24 D4 (power), 25 D3 (power), 26 D2 (power), 27 GND (power), 28 RST (power), 29 RXD (power), 30 TX1 (power)
text: Nano

## NE2
designator *
footprint NE2
pins: 1, 2

## NFET
designator *
footprint TO-252 (D-PAK/TO-252-AA; 3 Leads (1 Cropped); Body 10.3 (inc. leads) x 6.7 mm (LxW max)); pin to pad 2>4
pins: 1 G, 2 D, 3 S

## NPN
designator Q*, comment C828
Transistor C828 C1815....
footprint SOT23 TOP
pins: 1 B, 2 C, 3 E

## OLED 0.84
designator ?
footprint OLED0.84
pins: 1 C2P, 2 C2N, 3 C1P, 4 C1N, 5 VBAT, 6 VBREF, 7 VSS, 8 VDD, 9 RES#, 10 SCL, 11 SDA, 12 IREF, 13 VCOMH, 14 VCC

## Opto
designator U*
footprint DIP4/W0.3
part A pins: 1 A "Anode", 2 K "Cathode"
part B pins: 3 E "Emitter", 4 C "Collector"

## PCF8574P
designator *
footprint DIP.100/16/W.300/L.900
pins: 1 A0 (power), 2 A1 (power), 3 A2 (power), 4 P0 (power), 5 P1 (power), 6 P2 (power), 7 P3 (power), 8 GND (power), 9 P4 (power), 10 P5 (power), 11 P6 (power), 12 P7 (power), 13 INT (power), 14 SCL (power), 15 SDA (power), 16 Vdd (power)

## PFET
designator *
footprint TO-252 (D-PAK/TO-252-AA; 3 Leads (1 Cropped); Body 10.3 (inc. leads) x 6.7 mm (LxW max)); pin to pad D>4
footprint SOT23 TOP; pin to pad D>2 G>1 S>3
pins: D, G, S

## RDA5807FP
designator *
footprint SO-16 (SOIC, 16-Leads, Body 9.9x3.9mm, Pitch 1.27mm, IPC Medium Density)
pins: 1 GPIO1 (power), 2 GND (power), 3 RF GND (power), 4 FMIN (in), 5 GND (power), 6 GND (power), 7 SCLK (io), 8 SDA (io), 9 RCLK (power), 10 VDD (power), 11 GND (power), 12 ROUT (out), 13 LOUT (out), 14 GND (power), 15 GPIO3 (power), 16 GPIO2 (power)

## RDA5807M
designator *
footprint PCB RDA5807M
pins: 1 GND, 2 Rout, 3 Lout, 4 NC, 5 ANT, 6 Data, 7 Clk, 8 NC, 9 NC, 10 +3V_Vcc

## Relay 24V
designator *
footprint Relay_14PIN
pins: 1, 2, 3, 4, 5, 6, 7, 8, 9, 10, 11, 12, 13 9, 14 10

## Res
designator R?, comment value 10k  (hidden comment: Điện trở dán 060310k)
Resistor; cm2: Điện trở cắm 1/4W; cm3: Điện trở dán 0805; cm4: Điện trở dán 1206; cm1: Điện trở dán 0603
footprint RES 0805 (Compoment SMD 80x50mil)
footprint RESC1608N_F (Chip Resistor, Body 1.6x0.8mm, 0603, IPC Medium Density, for Flex circuits)
footprint RESC2012N_F (Chip Resistor, Body 2.0x1.2mm, 0805, IPC Medium Density)
footprint RESC3216N (Chip Resistor, Body 3.2x1.6mm, 1206, IPC Medium Density)
footprint RESC6332N (Chip Resistor, Body 6.3x3.2mm, 2512, IPC Medium Density)
pins: 1, 2

## RF_SMA
designator *, comment Giắc anten SMA
footprint SMA
pins: 1 RF, 2 G

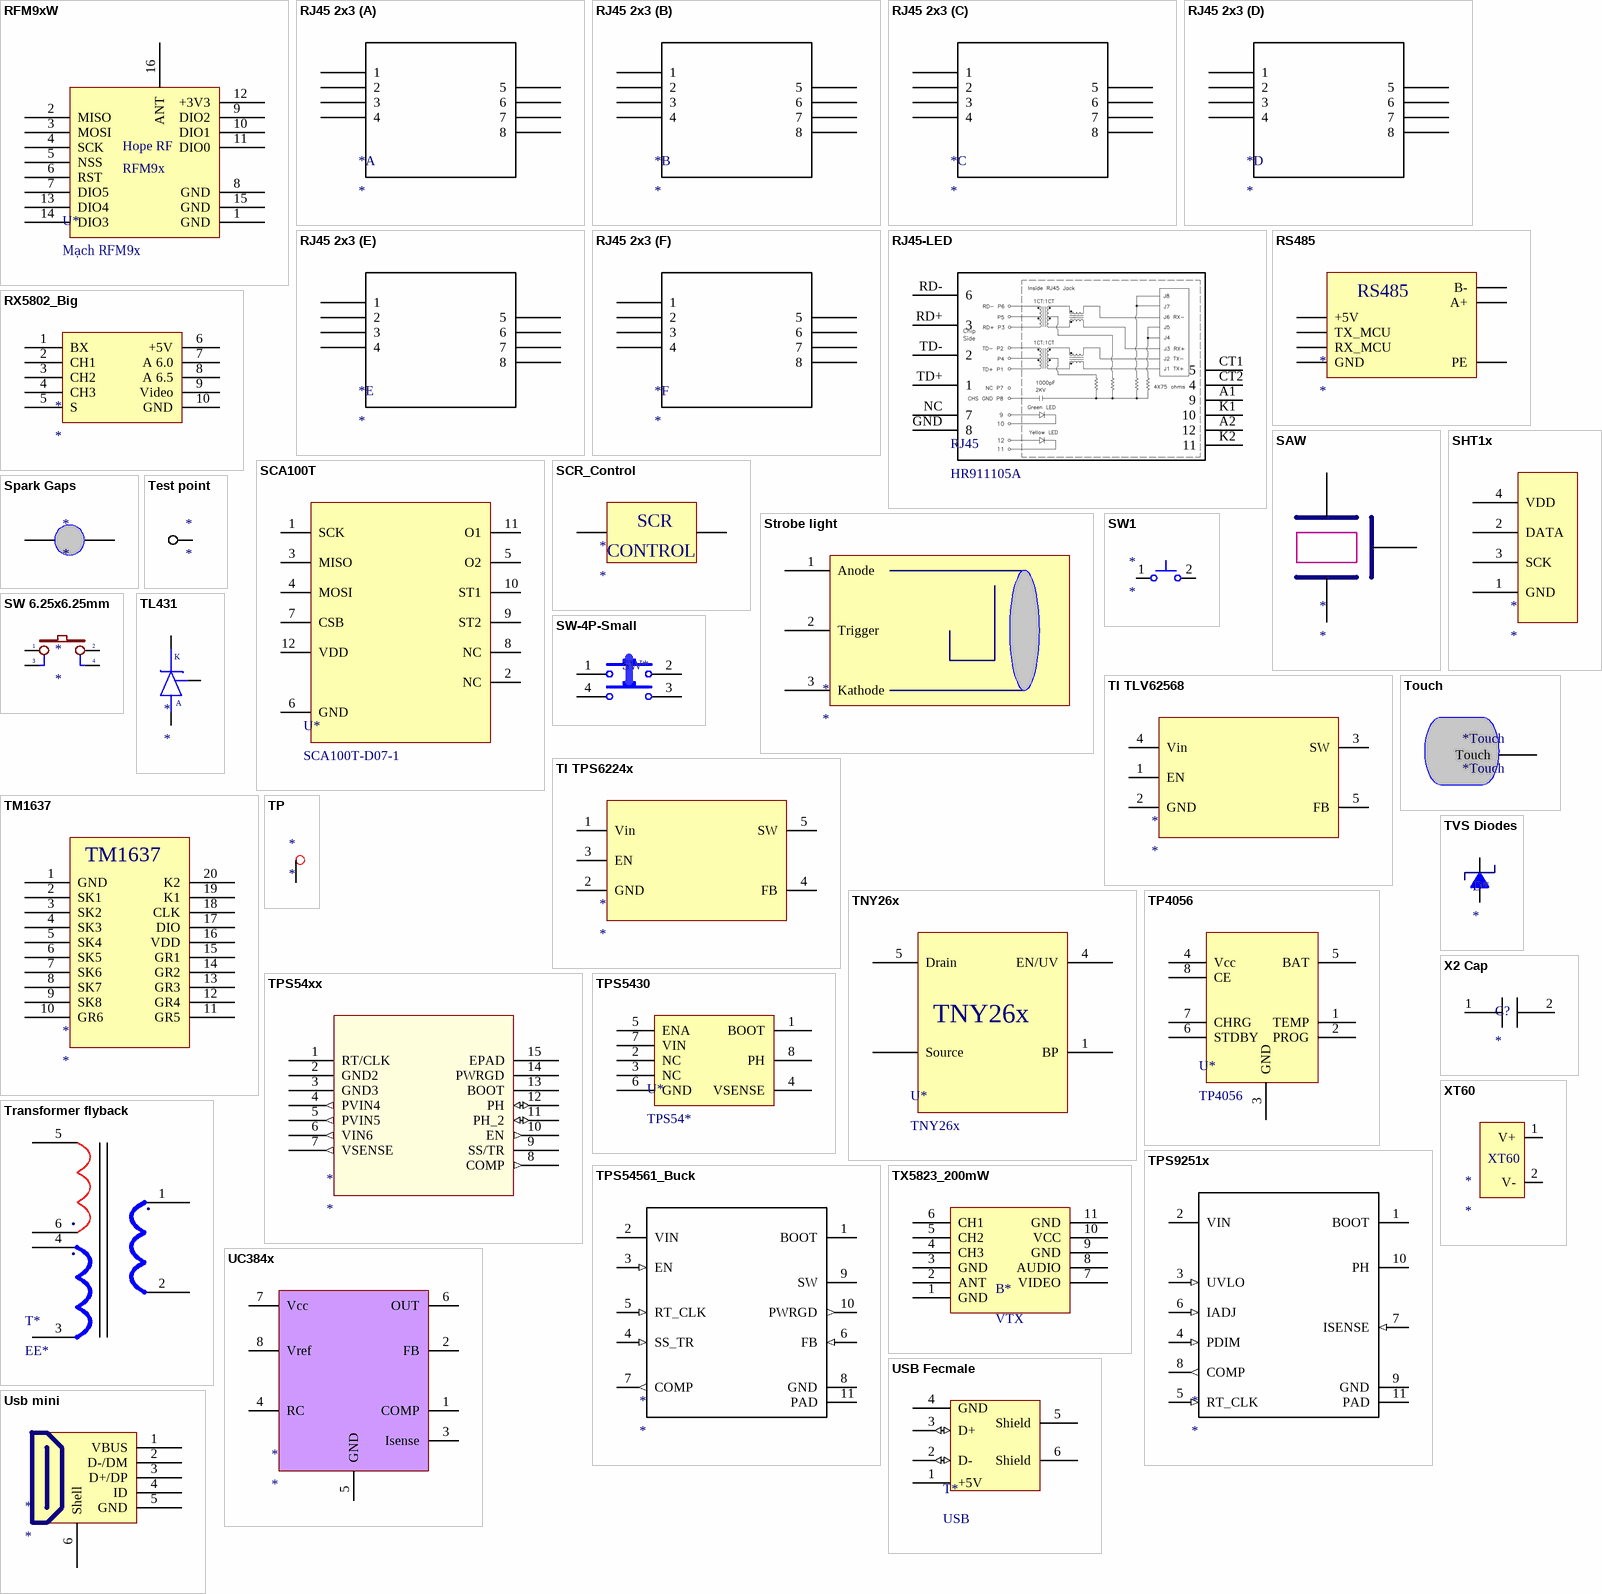
[diagram p3: symbols RFM9xW to XT60]

## RFM9xW
designator U*, comment Mạch RFM9x
footprint RFM9xW (HopeRF)
pins: 1 GND, 2 MISO, 3 MOSI, 4 SCK, 5 NSS, 6 RST, 7 DIO5, 8 GND, 9 DIO2, 10 DIO1, 11 DIO0, 12 +3V3, 13 DIO4, 14 DIO3, 15 GND, 16 ANT
text: Hope RF; RFM9x

## RJ45 2x3
designator *
footprint RS45 2x3
part A pins: 1A 1, 2A 2, 3A 3, 4A 4, 5A 5, 6A 6, 7A 7, 8A 8
part B pins: 1B 1, 2B 2, 3B 3, 4B 4, 5B 5, 6B 6, 7B 7, 8B 8
part C pins: 1C 1, 2C 2, 3C 3, 4C 4, 5C 5, 6C 6, 7C 7, 8C 8
part D pins: 1D 1, 2D 2, 3D 3, 4D 4, 5D 5, 6D 6, 7D 7, 8D 8
part E pins: 1E 1, 2E 2, 3E 3, 4E 4, 5E 5, 6E 6, 7E 7, 8E 8
part F pins: 1F 1, 2F 2, 3F 3, 4F 4, 5F 5, 6F 6, 7F 7, 8F 8

## RJ45-LED
designator RJ45, comment HR911105A
footprint HR911105A (HanRun HR911105A); pin to pad A1>12 A2>9 CT1>4 CT2>5 GND>8 K1>11 K2>10 NC>7 RD+>3 RD->6 TD+>1 TD->2
pins: A1 9, A2 12, CT1 5, CT2 4, GND 8, K1 10, K2 11, NC 7, RD+ 3, RD- 6, TD+ 1, TD- 2

## RS485
designator *
footprint RS485 M
pins: 1 GND, 2 RX_MCU, 3 TX_MCU, 4 +5V, 5 PE, 6 B-, 7 A+

## RX5802_Big
designator *
pins: 1 BX (power), 2 CH1 (power), 3 CH2 (power), 4 CH3 (power), 5 S (power), 6 +5V (power), 7 A 6.0 (power), 8 A 6.5 (power), 9 Video (power), 10 GND (power)

## SAW
designator *
footprint SAW 315MHz
pins: 1, 2, 3

## SCA100T
designator U*, comment SCA100T-D07-1
Accelerometer X, Y Axis ±12g 400Hz 12-SMD; Digi-Key Part Number: 551-1086-2-ND
footprint SCA100T
pins: 1 SCK, 2 NC, 3 MISO, 4 MOSI, 5 O2, 6 GND, 7 CSB, 8 NC, 9 ST2, 10 ST1, 11 O1, 12 VDD

## SCR_Control
designator *
pins: 1, 2
text: SCR; CONTROL

## SHT1x
designator *
footprint SHT1x
pins: 1 GND, 2 DATA, 3 SCK, 4 VDD

## Spark Gaps
designator *
footprint Spark Gaps Top
footprint Spark Gaps Bot
pins: 1, 2

## Strobe light
designator *
pins: 1 Anode, 2 Trigger, 3 Kathode

## SW1
designator *
pins: 1, 2

## SW 6.25x6.25mm
designator *
pins: 1, 2, 3, 4

## SW-4P-Small
designator SW*, comment Nút bấm 4 chân cắm12x12x6mm  (value not drawn)
cm1: Nút bấm 4 chân cắm; vl1: 12x12x6mm
footprint SW (6.25x6.25mm)
footprint SW4Small
footprint SW 12x12x4 (Nut bam 12x12x4mm)
pins: 1, 2, 3, 4

## Test point
designator *
footprint TP2
pins: 1

## TI TLV62568
designator *
footprint SOT 235 TOP
pins: 1 EN (power), 2 GND (power), 3 SW (power), 4 Vin (power), 5 FB (power)

## TI TPS6224x
designator *
footprint SOT 235 TOP
pins: 1 Vin (power), 2 GND (power), 3 EN (power), 4 FB (power), 5 SW (power)

## TL431
designator *
footprint TO-92
pins: 1 adj, 2 A, 3 K

## TM1637
designator *
footprint SOIC-20
pins: 1 GND, 2 SK1, 3 SK2, 4 SK3, 5 SK4, 6 SK5, 7 SK6, 8 SK7, 9 SK8, 10 GR6, 11 GR5, 12 GR4, 13 GR3, 14 GR2, 15 GR1, 16 VDD, 17 DIO, 18 CLK, 19 K1, 20 K2

## TNY26x
designator U*
footprint TNY26x
pins: 1 BP, 2 Source, 3 Source, 4 EN/UV, 5 Drain, 7 Source, 8 Source

## Touch
designator *Touch, comment *Touch
footprint Touch_v1
pins: 1 Touch (power)

## TP
designator *
footprint TP2
pins: 1

## TP4056
designator U*
Lion charge 1A
footprint SOIC127P600X175-9N (SOIC, 8-Leads with thermal tab, Body 4.9x3.9mm, Pitch 1.27mm, IPC Medium Density)
pins: 1 TEMP (power), 2 PROG (power), 3 GND (power), 4 Vcc (power), 5 BAT (power), 6 STDBY (power), 7 CHRG (power), 8 CE (power)

## TPS54xx
designator *
footprint TPS54xx
pins: 1 RT/CLK, 2 GND2 (power), 3 GND3 (power), 4 PVIN4 (out), 5 PVIN5 (out), 6 VIN6 (out), 7 VSENSE (out), 8 COMP (out), 9 SS/TR, 10 EN (out), 11 PH_2 (io), 12 PH (io), 13 BOOT, 14 PWRGD (power), 15 EPAD

## TPS5430
designator U*, comment TPS54*
footprint SOIC 8
pins: 1 BOOT (power), 2 NC (power), 3 NC (power), 4 VSENSE (power), 5 ENA (power), 6 GND (power), 7 VIN (power), 8 PH (power)

## TPS9251x
designator *
footprint HVSSOP10 (TPS92512)
pins: 1 BOOT (power), 2 VIN (power), 3 UVLO (in), 4 PDIM (in), 5 RT_CLK (in), 6 IADJ (in), 7 ISENSE (in), 8 COMP (out), 9 GND (power), 10 PH (power), 11 PAD (power)

## TPS54561_Buck
designator *
footprint DPR0010A
pins: 1 BOOT (power), 2 VIN (power), 3 EN (in), 4 SS_TR (in), 5 RT_CLK (in), 6 FB (in), 7 COMP (out), 8 GND (power), 9 SW (power), 10 PWRGD (out), 11 PAD (power)

## Transformer flyback
designator T*, comment EE*
pins: 1, 2, 3, 4, 5, 6
text: .

## TVS Diodes
designator D*
TVS Diodes - Transient Voltage Suppressors; SMBJ12CA-E3/52: 12V,600W,DO-214AA; SMAJ5.0A: TVS Diodes - Transient Voltage Suppressors 5volts 400watts UniDirectional
footprint DO-214AA (JEDEC DO214 variation AA. SMB)
footprint DO-214AC (JEDEC DO214 variation AC. SMA)
pins: A, K

## TX5823_200mW
designator B*, comment VTX
Video transmiter 5.8GHz 200mW
footprint VTX 200mW (Video transmiter 5.8GHz 200mW)
pins: 1 GND (power), 2 ANT (power), 3 GND (power), 4 CH3 (power), 5 CH2 (power), 6 CH1 (power), 7 VIDEO (power), 8 AUDIO (power), 9 GND (power), 10 VCC (power), 11 GND (power)

## UC384x
designator *
footprint SOIC 8
footprint DIP.100/8/W.300/L.400
pins: 1 COMP (power), 2 FB (power), 3 Isense (power), 4 RC (power), 5 GND (power), 6 OUT (power), 7 Vcc (power), 8 Vref (power)

## USB Fecmale
designator T*, comment USB
footprint USB2.5-2H4B (Connector; USB1.1, Type A, Thru-Hole; 4 Position; Right Angle)
footprint USB2.5-2H4D_OK (onnector; USB1.1, Type B, Thru-Hole; 4 Position; Right Angle)
pins: 1 +5V (power), 2 D- (io), 3 D+ (io), 4 GND (power), 5 Shield (power), 6 Shield (power)

## Usb mini
designator *
footprint USB mini
pins: 1 VBUS, 2 D-/DM, 3 D+/DP, 4 ID, 5 GND, 6 Shell

## X2 Cap
designator C?
footprint X2 CAP
pins: 1, 2

## XT60
designator *
footprint XT60
pins: 1 V+ (power), 2 V- (power)